# Altium footprint library PEC12R-4225F-S0024.PcbLib: 2 footprints
Each footprint in its own frame and in the unit in brackets; x right, y up, seen from the top. Pads: shape width x height; smd on the part's side, far side on the other; paste and mask are expansions set on the pad; w line width, h text height; cw(c..) or ccw(c..) is an arc to the next point about the centre after c.
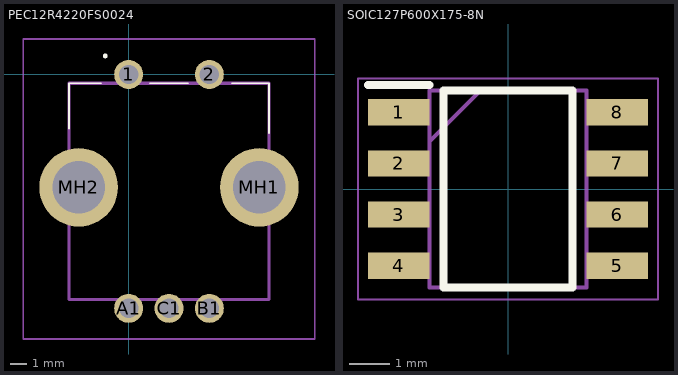
[diagram p0: the footprints below, top view; thin cyan lines are the x and y axes]

## PEC12R4220FS0024 [mm]
pads (7):
  round 1.8 hole 1.2: 1(0,0) 2(5,0) A1(0,-14.5) B1(5,-14.5) C1(2.5,-14.5)
  round 4.875 hole 3.25: MH1(8.1,-7) MH2(-3.1,-7)
Top Overlay:
  lines w0.1: -3.7,-3.35 -3.7,-0.55 -1.7,-0.55 ; 1.3,-0.55 3.7,-0.55 ; 6.4,-0.55 8.7,-0.55 8.7,-3.65
  lines w0.2: -1.5,1.15 ccw(c-1.45,1.15) -1.4,1.15 ccw(c-1.45,1.15) -1.5,1.15
Mechanical 13:
  lines w0.2: -3.7,-13.95 -3.7,-0.55 8.7,-0.55 8.7,-13.95 -3.7,-13.95
Mechanical 15:
  lines w0.1: -6.537,-16.4 -6.537,2.2 11.537,2.2 11.537,-16.4 -6.537,-16.4
3D body "PEC12R-4220F-S0024.stp": height 20.1, standoff -5, extent -4.613,-14.999 9.625,0.499

## SOIC127P600X175-8N [mm]
pads (8):
  rect 1.525x0.65 smd: 1(-2.712,1.905) 2(-2.712,0.635) 3(-2.712,-0.635) 4(-2.712,-1.905) 5(2.712,-1.905) 6(2.712,-0.635) 7(2.712,0.635) 8(2.712,1.905)
Top Overlay:
  lines w0.2: -3.475,2.58 -1.95,2.58 ; -1.6,-2.45 1.6,-2.45 1.6,2.45 -1.6,2.45 -1.6,-2.45
Mechanical 13:
  lines w0.1: -1.95,1.18 -0.68,2.45 ; -1.95,-2.45 1.95,-2.45 1.95,2.45 -1.95,2.45 -1.95,-2.45
Mechanical 15:
  lines w0.05: -3.725,-2.75 3.725,-2.75 3.725,2.75 -3.725,2.75 -3.725,-2.75
3D body "NE555DR.stp": height 1.75, standoff 0, extent -3,-2.45 3,2.45